# EAGLE library part MCP4922-E/P (library MCP4922-E_P)
12-Bit DAC
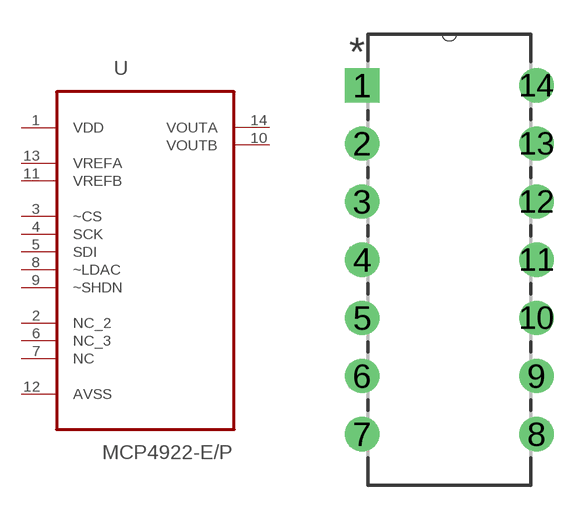
[diagram p0: symbol with the pads of DIP254P762X533-14; footprint DIP254P762X533-14]

Designator prefix -

## MCP4922-E/P (Availability: Good; Description: MCP4922 Series 2 Ch 12-Bit Voltage Output Digital-to-Analog Converter-PDIP-14; MF: Microchip; MP: MCP4922-E/P; Package: DIP-14 Microchip; Price: 2.40 USD)  [DIP254P762X533-14]
1  VDD  pwr
2  NC_2  nc
3  ~CS  in
4  SCK  in
5  SDI  in
6  NC_3  nc
7  NC  nc
8  ~LDAC  in
9  ~SHDN  in
10  VOUTB  out
11  VREFB  in
12  AVSS  pwr
13  VREFA  in
14  VOUTA  out

## Footprint DIP254P762X533-14 (pad centres in mm)
drill 0.991 square: 1 -7.62,15.24
drill 0.991: 2 -7.62,12.7; 3 -7.62,10.16; 4 -7.62,7.62; 5 -7.62,5.08; 6 -7.62,2.54; 7 -7.62,0; 8 0,0; 9 0,2.54; 10 0,5.08; 11 0,7.62; 12 0,10.16; 13 0,12.7; 14 0,15.24